# Altium footprint library Capacitors_rus.PCBLIB: 349 footprints (part 18 of 22)
Each footprint in its own frame and in the unit in brackets; x right, y up, seen from the top. Pads: shape width x height; smd on the part's side, far side on the other; paste and mask are expansions set on the pad; w line width, h text height; cw(c..) or ccw(c..) is an arc to the next point about the centre after c.
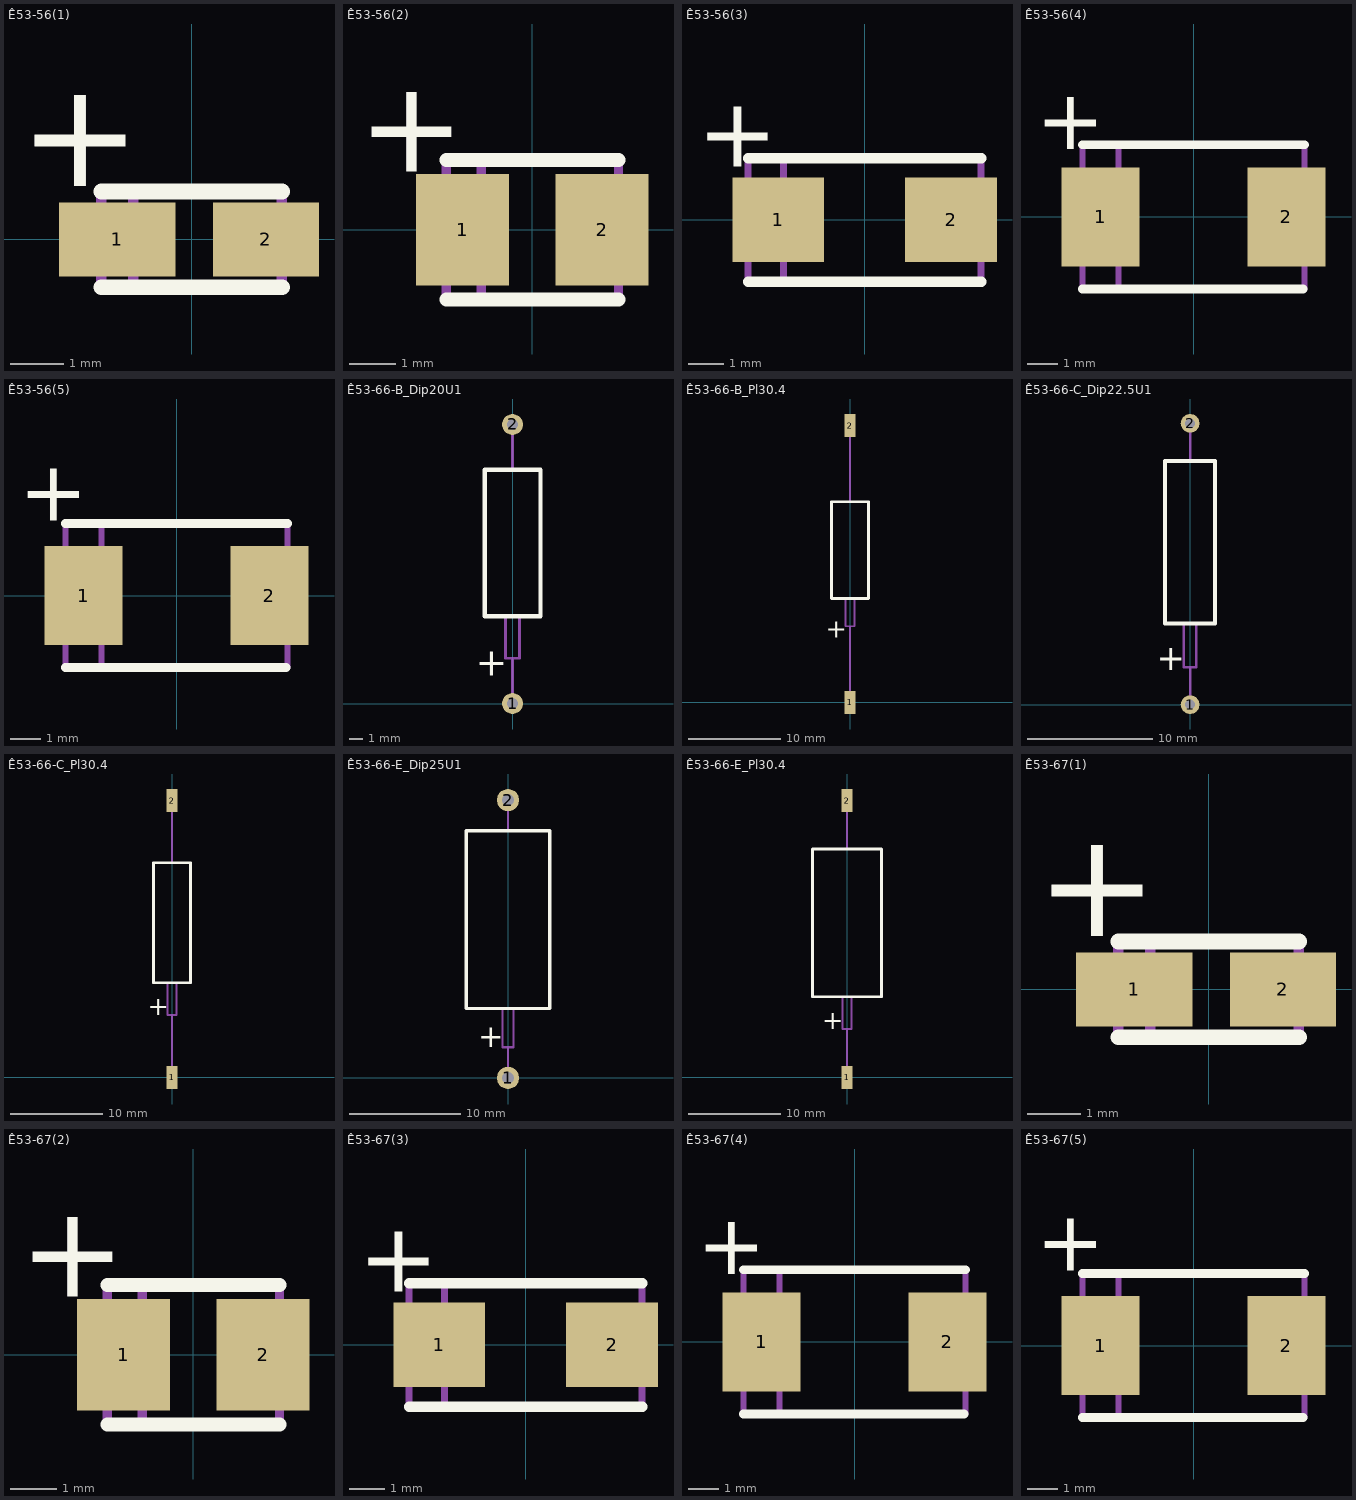
[diagram p17: the footprints below, top view; thin cyan lines are the x and y axes]

## Ê53-56(1) [mm]
height 1.8
pads (2):
  rect 2.2x1.4 smd: 1(-1.4,0)
  rect 2x1.4 smd: 2(1.4,0)
Top Overlay:
  lines w0.3: -1.7,-0.9 1.7,-0.9 ; -1.7,0.9 1.7,0.9
  text "+" at -3.25,1 h2
Mechanical 1:
  lines w0.2: -1.1,-0.9 -1.1,0.9 ; -1.7,-0.9 -1.7,0.9 1.7,0.9 1.7,-0.9 -1.7,-0.9
  text ".Designator" at -1.25,1.25 h1.5
  text "+" at -3,-0.5 h1.5
3D body: height 1.9, standoff 0, extent -1.9,-0.9 1.9,0.9

## Ê53-56(2) [mm]
height 2.1
pads (2):
  rect 2x2.4 smd: 1(-1.5,0) 2(1.5,0)
Top Overlay:
  lines w0.3: -1.85,-1.5 1.85,-1.5 ; -1.85,1.5 1.85,1.5
  text "+" at -3.75,1.25 h2
Mechanical 1:
  lines w0.2: -1.1,-1.5 -1.1,1.5 ; -1.85,-1.5 1.85,-1.5 1.85,1.5 -1.85,1.5 -1.85,-1.5
  text ".Designator" at -1.05,1.8 h1.5
  text "+" at -3,-0.5 h1.5
3D body: height 2.2, standoff 0, extent -2.05,-1.5 2.05,1.5

## Ê53-56(3) [mm]
height 2.8
pads (2):
  rect 2.6x2.4 smd: 1(-2.45,0) 2(2.45,0)
Top Overlay:
  lines w0.3: -3.3,-1.75 3.3,-1.75 ; -3.3,1.75 3.3,1.75
  text "+" at -4.75,1.5 h2
Mechanical 1:
  lines w0.2: -2.3,-1.75 -2.3,1.75 ; -3.3,-1.75 3.3,-1.75 3.3,1.75 -3.3,1.75 -3.3,-1.75
  text ".Designator" at -1.75,2.25 h1.5
  text "+" at -1.75,-0.5 h1.5
3D body: height 2.9, standoff 0, extent -3.6,-1.75 3.6,1.75

## Ê53-56(4) [mm]
height 3.1
pads (2):
  rect 2.6x3.3 smd: 1(-3.1,0) 2(3.1,0)
Top Overlay:
  lines w0.3: -3.7,-2.4 3.65,-2.4 ; -3.7,2.4 3.7,2.4
  text "+" at -5.25,2.25 h2
Mechanical 1:
  lines w0.2: -3.7,-2.4 -3.7,2.4 3.7,2.4 3.7,-2.4 ; -3.65,-2.4 3.65,-2.4 ; -2.5,-2.4 -2.5,2.4
  text "+" at -2,-0.8 h1.5
  text ".Designator" at -2.2,2.95 h1.5
3D body: height 3.2, standoff 0, extent -4,-2.4 4,2.4

## Ê53-56(5) [mm]
height 4.3
pads (2):
  rect 2.6x3.3 smd: 1(-3.1,0) 2(3.1,0)
Top Overlay:
  lines w0.3: -3.7,-2.4 3.65,-2.4 ; -3.7,2.4 3.7,2.4
  text "+" at -5.25,2.5 h2
Mechanical 1:
  lines w0.2: -3.7,-2.4 -3.7,2.4 3.7,2.4 3.7,-2.4 ; -3.65,-2.4 3.65,-2.4 ; -2.5,-2.4 -2.5,2.4
  text ".Designator" at -2,2.9 h1.5
  text "+" at -2,-0.8 h1.5
3D body: height 4.4, standoff 0, extent -4,-2.4 4,2.4

## Ê53-66-B_Dip20U1 [mm]
height 4.5
pads (2):
  round 1.5 hole 0.8: 1(0,0) 2(0,20)
Top Overlay:
  lines w0.3: -2,6.25 -2,16.75 2,16.75 2,6.25 -2,6.25
  text "+" at -2.656,2 h2
Mechanical 1:
  lines w0.2: -0.5,6.25 -0.5,3.25 0.5,3.25 0.5,6.25 ; 0,0 0,3.25 ; 0,16.75 0,20 ; -2,6.25 -2,16.75 2,16.75 2,6.25 -2,6.25
  text ".Designator" at 0.4,8.55 h1.5
  text "+" at -0.25,7 h1.5

## Ê53-66-B_Pl30.4 [mm]
height 4.5
pads (2):
  rect 1.2x2.5 smd: 1(0,0) 2(0,30)
Top Overlay:
  lines w0.3: -2,11.25 -2,21.75 2,21.75 2,11.25 -2,11.25
  text "+" at -2.656,7 h2
Mechanical 1:
  lines w0.2: -0.5,11.25 -0.5,8.25 0.5,8.25 0.5,11.25 ; 0,-0.2 0,8.25 ; 0,21.75 0,30.2 ; -2,11.25 -2,21.75 2,21.75 2,11.25 -2,11.25
  text ".Designator" at 0.35,13.6 h1.5
  text "+" at -0.25,11.75 h1.5

## Ê53-66-C_Dip22.5U1 [mm]
height 4.5
pads (2):
  round 1.5 hole 0.8: 1(0,0) 2(0,22.5)
Top Overlay:
  lines w0.3: -2,6.5 2,6.5 2,19.5 -2,19.5 -2,6.5
  text "+" at -2.656,2.75 h2
Mechanical 1:
  lines w0.2: -0.5,6.5 -0.5,3 0.5,3 0.5,6.5 ; 0,0 0,3 ; 0,19.5 0,22.5 ; -2,6.5 -2,19.5 2,19.5 2,6.5 -2,6.5
  text ".Designator" at 0.25,10.65 h1.5
  text "+" at -0.25,7.25 h1.5

## Ê53-66-C_Pl30.4 [mm]
height 4.5
pads (2):
  rect 1.2x2.5 smd: 1(0,0) 2(0,30)
Top Overlay:
  lines w0.3: -2,10.25 2,10.25 2,23.25 -2,23.25 -2,10.25
  text "+" at -2.656,6.75 h2
Mechanical 1:
  lines w0.2: -0.5,10.25 -0.5,6.75 0.5,6.75 0.5,10.25 ; 0,-0.2 0,6.75 ; 0,23.25 0,30.2 ; -2,10.25 2,10.25 2,23.25 -2,23.25 -2,10.25
  text "+" at -1.978,7.993 h1.5
  text ".Designator" at 0.4,14.9 h1.5

## Ê53-66-E_Dip25U1 [mm]
height 7.5
pads (2):
  round 2 hole 1.1: 1(0,0) 2(0,25)
Top Overlay:
  lines w0.3: -3.75,6.25 3.75,6.25 3.75,22.25 -3.75,22.25 -3.75,6.25
  text "+" at -2.656,2.75 h2
Mechanical 1:
  lines w0.2: -0.5,6.25 -0.5,2.75 0.5,2.75 0.5,6.25 ; 0,0 0,2.75 ; 0,22.25 0,25 ; -3.75,6.25 3.75,6.25 3.75,22.25 -3.75,22.25 -3.75,6.25
  text ".Designator" at 0.2,12.05 h1.5
  text "+" at -0.25,7 h1.5

## Ê53-66-E_Pl30.4 [mm]
height 7.5
pads (2):
  rect 1.2x2.5 smd: 1(0,0) 2(0,30)
Top Overlay:
  lines w0.3: -3.75,8.75 -3.75,24.75 3.75,24.75 3.75,8.75 -3.75,8.75
  text "+" at -2.656,5.25 h2
Mechanical 1:
  lines w0.2: -0.5,8.75 -0.5,5.25 0.5,5.25 0.5,8.75 ; 0,-0.2 0,5.25 ; 0,24.75 0,30.2 ; -3.75,8.75 -3.75,24.75 3.75,24.75 3.75,8.75 -3.75,8.75
  text "+" at -0.25,9.75 h1.5
  text ".Designator" at 0.35,15.7 h1.5

## Ê53-67(1) [mm]
height 1.8
pads (2):
  rect 2.2x1.4 smd: 1(-1.4,0)
  rect 2x1.4 smd: 2(1.4,0)
Top Overlay:
  lines w0.3: -1.7,-0.9 1.7,-0.9 ; -1.7,0.9 1.7,0.9
  text "+" at -3.25,1 h2
Mechanical 1:
  lines w0.2: -1.1,-0.9 -1.1,0.9 ; -1.7,-0.9 -1.7,0.9 1.7,0.9 1.7,-0.9 -1.7,-0.9
  text ".Designator" at -1.25,1.25 h1.5
  text "+" at -3,-0.5 h1.5
3D body: height 1.9, standoff 0, extent -1.9,-0.9 1.9,0.9

## Ê53-67(2) [mm]
height 2.1
pads (2):
  rect 2x2.4 smd: 1(-1.5,0) 2(1.5,0)
Top Overlay:
  lines w0.3: -1.85,-1.5 1.85,-1.5 ; -1.85,1.5 1.85,1.5
  text "+" at -3.75,1.25 h2
Mechanical 1:
  lines w0.2: -1.1,-1.5 -1.1,1.5 ; -1.85,-1.5 1.85,-1.5 1.85,1.5 -1.85,1.5 -1.85,-1.5
  text ".Designator" at -1.05,1.8 h1.5
  text "+" at -3,-0.5 h1.5
3D body: height 2.2, standoff 0, extent -2.05,-1.5 2.05,1.5

## Ê53-67(3) [mm]
height 2.8
pads (2):
  rect 2.6x2.4 smd: 1(-2.45,0) 2(2.45,0)
Top Overlay:
  lines w0.3: -3.3,-1.75 3.3,-1.75 ; -3.3,1.75 3.3,1.75
  text "+" at -4.75,1.5 h2
Mechanical 1:
  lines w0.2: -2.3,-1.75 -2.3,1.75 ; -3.3,-1.75 3.3,-1.75 3.3,1.75 -3.3,1.75 -3.3,-1.75
  text ".Designator" at -1.75,2.25 h1.5
  text "+" at -1.75,-0.5 h1.5
3D body: height 2.9, standoff 0, extent -3.6,-1.75 3.6,1.75

## Ê53-67(4) [mm]
height 3.1
pads (2):
  rect 2.6x3.3 smd: 1(-3.1,0) 2(3.1,0)
Top Overlay:
  lines w0.3: -3.7,-2.4 3.65,-2.4 ; -3.7,2.4 3.7,2.4
  text "+" at -5.25,2.25 h2
Mechanical 1:
  lines w0.2: -3.7,-2.4 -3.7,2.4 3.7,2.4 3.7,-2.4 ; -3.65,-2.4 3.65,-2.4 ; -2.5,-2.4 -2.5,2.4
  text ".Designator" at -2.2,2.95 h1.5
  text "+" at -2,-0.8 h1.5
3D body: height 3.2, standoff 0, extent -4,-2.4 4,2.4

## Ê53-67(5) [mm]
height 4.3
pads (2):
  rect 2.6x3.3 smd: 1(-3.1,0) 2(3.1,0)
Top Overlay:
  lines w0.3: -3.7,-2.4 3.65,-2.4 ; -3.7,2.4 3.7,2.4
  text "+" at -5.25,2.5 h2
Mechanical 1:
  lines w0.2: -3.7,-2.4 -3.7,2.4 3.7,2.4 3.7,-2.4 ; -3.65,-2.4 3.65,-2.4 ; -2.5,-2.4 -2.5,2.4
  text ".Designator" at -2,2.9 h1.5
  text "+" at -2,-0.8 h1.5
3D body: height 4.4, standoff 0, extent -4,-2.4 4,2.4